# Altium footprint library THT_Connectors.PcbLib: 15 footprints
Each footprint in its own frame and in the unit in brackets; x right, y up, seen from the top. Pads: shape width x height; smd on the part's side, far side on the other; paste and mask are expansions set on the pad; w line width, h text height; cw(c..) or ccw(c..) is an arc to the next point about the centre after c.
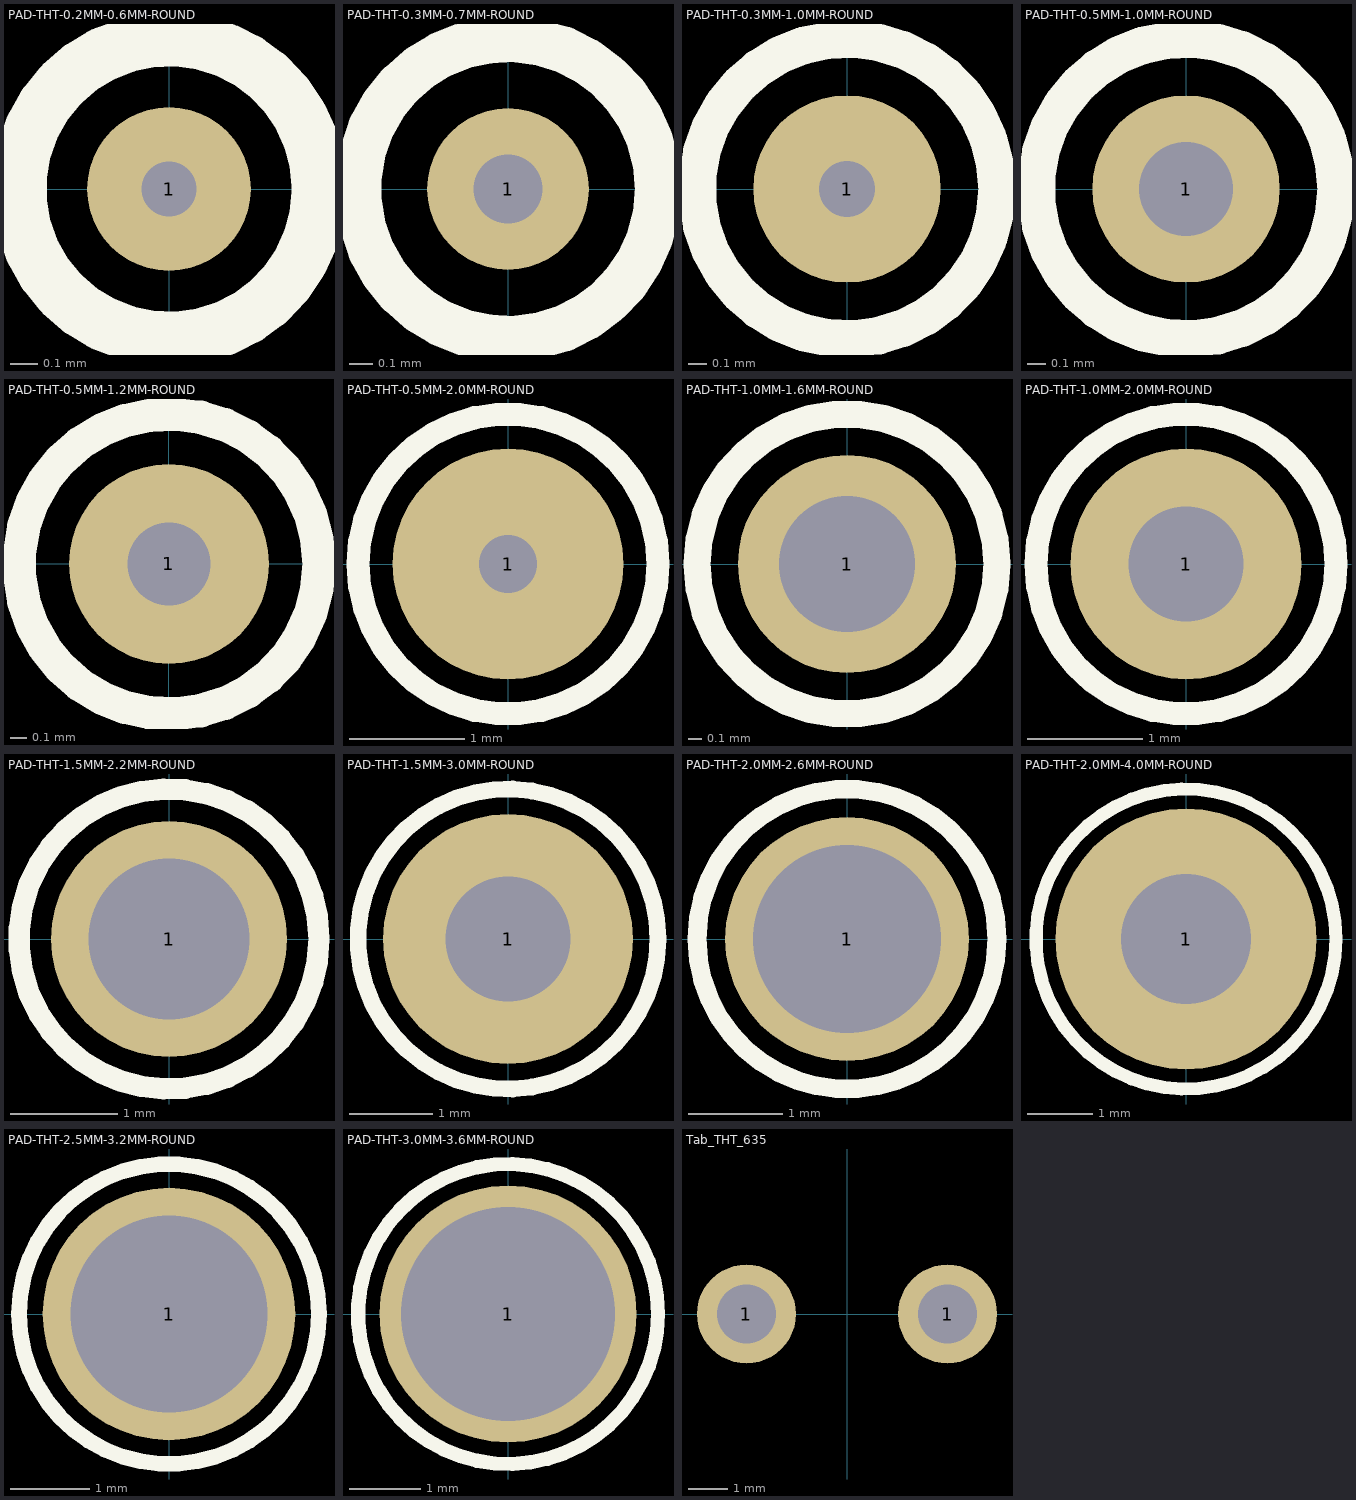
[diagram p0: the footprints below, top view; thin cyan lines are the x and y axes]

## PAD-THT-0.2MM-0.6MM-ROUND [mm]
pads (1):
  round 0.6 hole 0.2: 1(0,0)
Top Overlay:
  circle w0.2: c0,0 r0.55

## PAD-THT-0.3MM-0.7MM-ROUND [mm]
pads (1):
  round 0.7 hole 0.3: 1(0,0)
Top Overlay:
  circle w0.2: c0,0 r0.65

## PAD-THT-0.3MM-1.0MM-ROUND [mm]
pads (1):
  round 1 hole 0.3: 1(0,0)
Top Overlay:
  circle w0.2: c0,0 r0.8

## PAD-THT-0.5MM-1.0MM-ROUND [mm]
pads (1):
  round 1 hole 0.5: 1(0,0)
Top Overlay:
  circle w0.2: c0,0 r0.8

## PAD-THT-0.5MM-1.2MM-ROUND [mm]
pads (1):
  round 1.2 hole 0.5: 1(0,0)
Top Overlay:
  circle w0.2: c0,0 r0.9

## PAD-THT-0.5MM-2.0MM-ROUND [mm]
pads (1):
  round 2 hole 0.5: 1(0,0)
Top Overlay:
  circle w0.2: c0,0 r1.3

## PAD-THT-1.0MM-1.6MM-ROUND [mm]
pads (1):
  round 1.6 hole 1: 1(0,0)
Top Overlay:
  circle w0.2: c0,0 r1.1

## PAD-THT-1.0MM-2.0MM-ROUND [mm]
pads (1):
  round 2 hole 1: 1(0,0)
Top Overlay:
  circle w0.2: c0,0 r1.3

## PAD-THT-1.5MM-2.2MM-ROUND [mm]
pads (1):
  round 2.2 hole 1.5: 1(0,0)
Top Overlay:
  circle w0.2: c0,0 r1.4

## PAD-THT-1.5MM-3.0MM-ROUND [mm]
pads (1):
  round 3 hole 1.5: 1(0,0)
Top Overlay:
  circle w0.2: c0,0 r1.8

## PAD-THT-2.0MM-2.6MM-ROUND [mm]
pads (1):
  round 2.6 hole 2: 1(0,0)
Top Overlay:
  circle w0.2: c0,0 r1.6

## PAD-THT-2.0MM-4.0MM-ROUND [mm]
pads (1):
  round 4 hole 2: 1(0,0)
Top Overlay:
  circle w0.2: c0,0 r2.3

## PAD-THT-2.5MM-3.2MM-ROUND [mm]
pads (1):
  round 3.2 hole 2.5: 1(0,0)
Top Overlay:
  circle w0.2: c0,0 r1.9

## PAD-THT-3.0MM-3.6MM-ROUND [mm]
pads (1):
  round 3.6 hole 3: 1(0,0)
Top Overlay:
  circle w0.2: c0,0 r2.1

## Tab_THT_635 [mm]
pads (2):
  round 2.5 hole 1.5: 1(-2.54,0) 1(2.54,0)
3D body "Flachsteckverbinder.stp": height 10.21, standoff -3.81, extent -3.96,-1.54 3.96,1.54